# EAGLE library part CON-6POS-JST-ZH-PCB-FEMALE (library connectors)
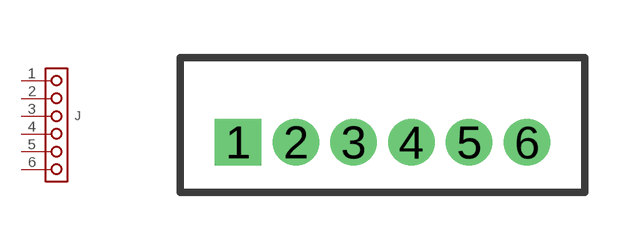
[diagram p0: symbol with the pads of JST_ZH_6POS; footprint JST_ZH_6POS]

Designator prefix J

## CON-6POS-JST-ZH-PCB-FEMALE  [JST_ZH_6POS]
1  1  pas
2  2  pas
3  3  pas
4  4  pas
5  5  pas
6  6  pas

## Footprint JST_ZH_6POS (pad centres in mm)
drill 0.7 square: 1 -3.75,0
drill 0.7: 2 -2.25,0; 3 -0.75,0; 4 0.75,0; 5 2.25,0; 6 3.75,0